# Altium footprint library SOP-4.PcbLib: 1 footprints
Each footprint in its own frame and in the unit in brackets; x right, y up, seen from the top. Pads: shape width x height; smd on the part's side, far side on the other; paste and mask are expansions set on the pad; w line width, h text height; cw(c..) or ccw(c..) is an arc to the next point about the centre after c.
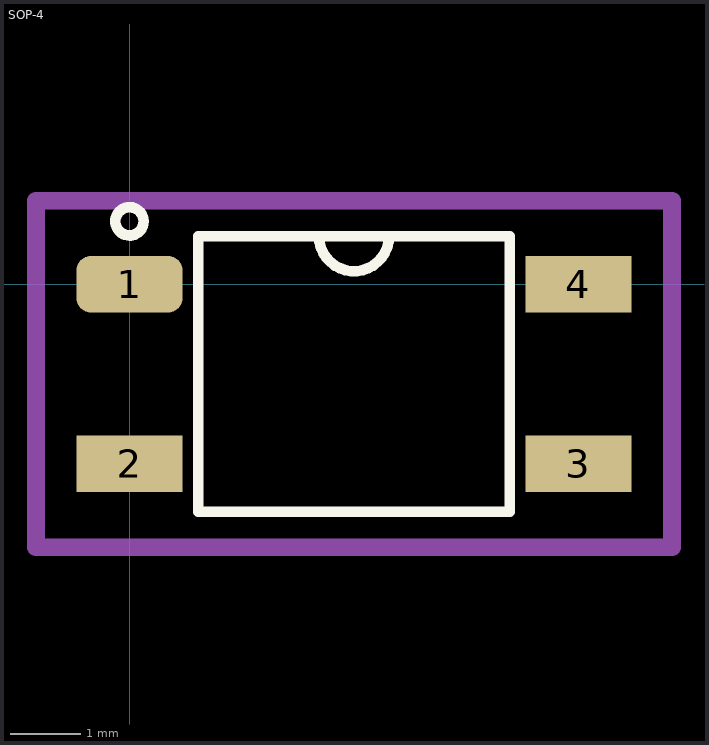
[diagram p0: the footprint, top view; thin cyan lines are the x and y axes]

## SOP-4 [mm]
height 2
pads (4):
  rrect50% 1.5x0.8 smd: 1(0,0)
  rect 1.5x0.8 smd: 2(0,-2.54) 3(6.35,-2.54) 4(6.35,0)
Top Overlay:
  circle w0.15: c0,0.889 r0.2
  lines w0.15: 2.679,0.68 ccw(c3.175,0.68) 3.671,0.68 ; 0.975,-3.22 0.975,0.68 5.375,0.68 5.375,-3.22 0.975,-3.22
Mechanical 15:
  lines w0.254: -1.325,-3.72 7.675,-3.72 7.675,1.18 -1.325,1.18 -1.325,-3.72
3D body "SOP-4.step": height 2.2, standoff 0, extent -0.339,-3.17 6.689,0.63